# Altium schematic symbol library SCH - MCU - NUVOTON - NUVOTON NUC505DSA.SchLib: 1 symbol
Pins are listed as number, name and electrical type; pins without a type are passive.

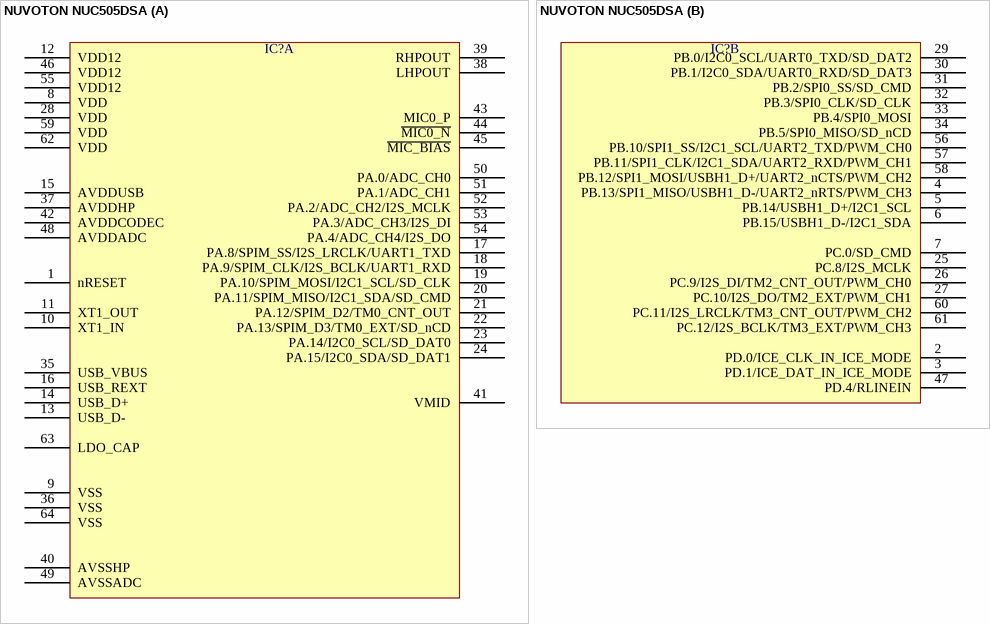
[diagram p0: symbol NUVOTON NUC505DSA]

## NUVOTON NUC505DSA
designator IC?  (value not drawn)
part A pins: 1 nRESET, 8 VDD, 9 VSS, 10 XT1_IN, 11 XT1_OUT, 12 VDD12, 13 USB_D-, 14 USB_D+, 15 AVDDUSB, 16 USB_REXT, 17 PA.8/SPIM_SS/I2S_LRCLK/UART1_TXD, 18 PA.9/SPIM_CLK/I2S_BCLK/UART1_RXD, 19 PA.10/SPIM_MOSI/I2C1_SCL/SD_CLK, 20 PA.11/SPIM_MISO/I2C1_SDA/SD_CMD, 21 PA.12/SPIM_D2/TM0_CNT_OUT, 22 PA.13/SPIM_D3/TM0_EXT/SD_nCD, 23 PA.14/I2C0_SCL/SD_DAT0, 24 PA.15/I2C0_SDA/SD_DAT1, 28 VDD, 35 USB_VBUS, 36 VSS, 37 AVDDHP, 38 LHPOUT, 39 RHPOUT, 40 AVSSHP, 41 VMID, 42 AVDDCODEC, 43 MIC0_P, 44 ~{MIC0_N}, 45 ~{MIC_BIAS}, 46 VDD12, 48 AVDDADC, 49 AVSSADC, 50 PA.0/ADC_CH0, 51 PA.1/ADC_CH1, 52 PA.2/ADC_CH2/I2S_MCLK, 53 PA.3/ADC_CH3/I2S_DI, 54 PA.4/ADC_CH4/I2S_DO, 55 VDD12, 59 VDD, 62 VDD, 63 LDO_CAP, 64 VSS
part B pins: 2 PD.0/ICE_CLK_IN_ICE_MODE, 3 PD.1/ICE_DAT_IN_ICE_MODE, 4 PB.13/SPI1_MISO/USBH1_D-/UART2_nRTS/PWM_CH3, 5 PB.14/USBH1_D+/I2C1_SCL, 6 PB.15/USBH1_D-/I2C1_SDA, 7 PC.0/SD_CMD, 25 PC.8/I2S_MCLK, 26 PC.9/I2S_DI/TM2_CNT_OUT/PWM_CH0, 27 PC.10/I2S_DO/TM2_EXT/PWM_CH1, 29 PB.0/I2C0_SCL/UART0_TXD/SD_DAT2, 30 PB.1/I2C0_SDA/UART0_RXD/SD_DAT3, 31 PB.2/SPI0_SS/SD_CMD, 32 PB.3/SPI0_CLK/SD_CLK, 33 PB.4/SPI0_MOSI, 34 PB.5/SPI0_MISO/SD_nCD, 47 PD.4/RLINEIN, 56 PB.10/SPI1_SS/I2C1_SCL/UART2_TXD/PWM_CH0, 57 PB.11/SPI1_CLK/I2C1_SDA/UART2_RXD/PWM_CH1, 58 PB.12/SPI1_MOSI/USBH1_D+/UART2_nCTS/PWM_CH2, 60 PC.11/I2S_LRCLK/TM3_CNT_OUT/PWM_CH2, 61 PC.12/I2S_BCLK/TM3_EXT/PWM_CH3